# EAGLE library part WIZ811MJ (library SparkFun-Boards2)
WIZnet W%100 Network Module with Mag Jack - WIZ811MJ Mechanical footprint with connectors for WIZ811MJ Breakout board with RJ45 connector. SparkFun Products: WIZ811MJ Breakout <https://www.sparkfun.com/products/9473>
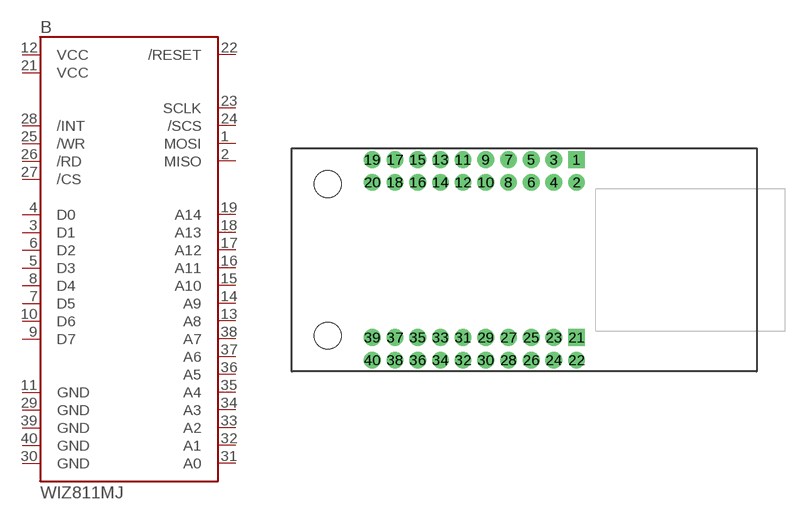
[diagram p4: symbol with the pads of WIZ811MJ; footprint WIZ811MJ]

Designator prefix B

## WIZ811MJ  [WIZ811MJ]
1  MOSI
2  MISO
3  D1
4  D0
5  D3
6  D2
7  D5
8  D4
9  D7
10  D6
11  GND
12  VCC
13  A8
14  A9
15  A10
16  A11
17  A12
18  A13
19  A14
21  VCC
22  /RESET
23  SCLK
24  /SCS
25  /WR
26  /RD
27  /CS
28  /INT
29  GND
30  GND
31  A0
32  A1
33  A2
34  A3
35  A4
36  A5
37  A6
38  A7
39  GND
40  GND

## Footprint WIZ811MJ (pad centres in mm)
WIZnet W5100 Network Module with MagJack - WIZ811MJ Footprint Specifications: Pin count:40 Pin pitch: 0.1" Area:2.05x1.0" Example device(s): WIZNet
drill 1.02 pad 1.88 square: 1 6.35,11.43; 21 6.35,-8.49
drill 1.02 pad 1.88: 2 6.35,8.89; 3 3.81,11.43; 4 3.81,8.89; 5 1.27,11.43; 6 1.27,8.89; 7 -1.27,11.43; 8 -1.27,8.89; 9 -3.81,11.43; 10 -3.81,8.89; 11 -6.35,11.43; 12 -6.35,8.89; 13 -8.89,11.43; 14 -8.89,8.89; 15 -11.43,11.43; 16 -11.43,8.89; 17 -13.97,11.43; 18 -13.97,8.89; 19 -16.51,11.43; 20 -16.51,8.89; 22 6.35,-11.03; 23 3.81,-8.49; 24 3.81,-11.03; 25 1.27,-8.49; 26 1.27,-11.03; 27 -1.27,-8.49; 28 -1.27,-11.03; 29 -3.81,-8.49; 30 -3.81,-11.03; 31 -6.35,-8.49; 32 -6.35,-11.03; 33 -8.89,-8.49; 34 -8.89,-11.03; 35 -11.43,-8.49; 36 -11.43,-11.03; 37 -13.97,-8.49; 38 -13.97,-11.03; 39 -16.51,-8.49; 40 -16.51,-11.03
hole 3 at -21.51,-8.3
hole 3 at -21.51,8.7